# Altium schematic symbol library DRV8434SRGER.SchLib: 2 symbols
Pins are listed as number, name and electrical type; pins without a type are passive.

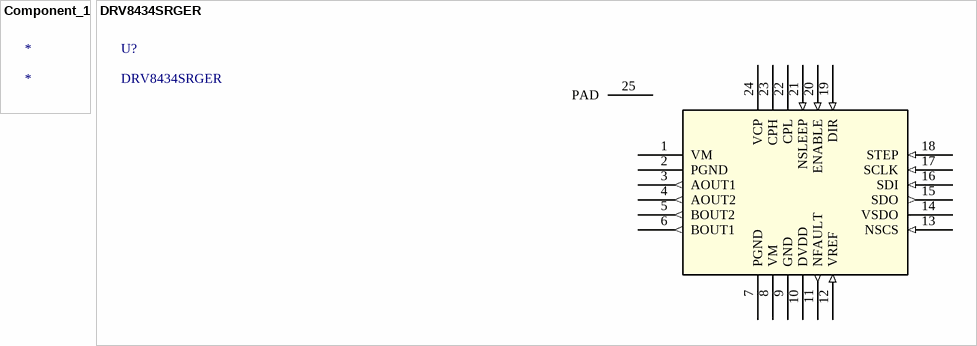
[diagram p0: symbols Component_1 to DRV8434SRGER]

## Component_1
designator *

## DRV8434SRGER
designator U?
48-V, 2.5-A BIPOLAR STEPPER MOTOR; Mfr_Name: Texas Instruments; Copyright: Copyright (C) 2023 Ultra Librarian. All rights reserved.; Manufacturer_Part_Number: DRV8434SRGER; Digi-Key_Part_Number_1: 296-DRV8434SRGERCT-ND; Digi-Key_Part_Number_2: 296-DRV8434SRGERDKR-ND; Digi-Key_Part_Number_3: 296-DRV8434SRGERTR-ND; RefDes: RefDes; Type: DEV
footprint RGE0024B_TEX
pins: 1 VM (power), 2 PGND (power), 3 AOUT1 (out), 4 AOUT2 (out), 5 BOUT2 (out), 6 BOUT1 (out), 7 PGND (power), 8 VM (power), 9 GND (power), 10 DVDD (power), 11 NFAULT (out), 12 VREF (in), 13 NSCS (in), 14 VSDO (power), 15 SDO (out), 16 SDI (in), 17 SCLK (in), 18 STEP (in), 19 DIR (in), 20 ENABLE (in), 21 NSLEEP (in), 22 CPL (power), 23 CPH (power), 24 VCP (power), 25 PAD